# Altium integrated library Cypress USB Embedded-Host.IntLib: 2 symbols
Pins are listed as number, name and electrical type; pins without a type are passive.

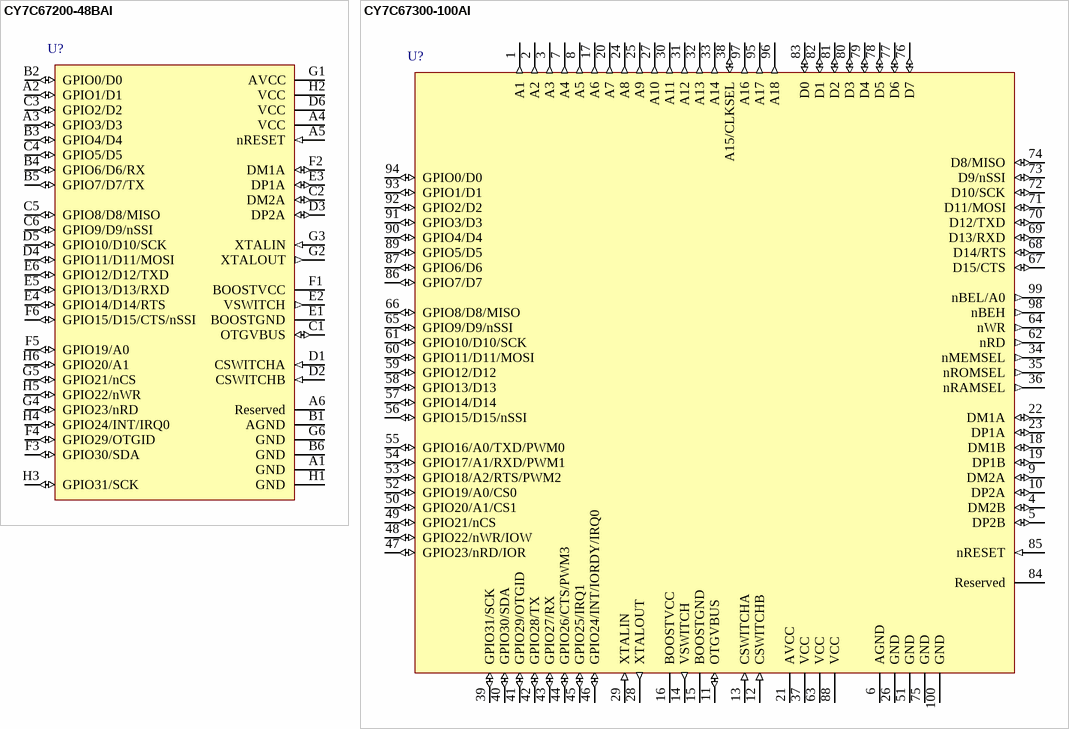
[diagram p0: symbols CY7C67200-48BAI to CY7C67300-100AI]

## CY7C67200-48BAI
designator U?
EZ-OTG Programmable USB On-The-Go Host/ Peripheral Controller; Published: 16-Dec-2005; LatestRevisionDate: 13-Apr-2006; LatestRevisionNote: IPC-7351 Footprint Added.; DatasheetVersion: rev.E, Sep-2003; PackageVersion: Sep-2003; PackageReference: BA48A; Publisher: Altium Limited; PackageDescription: 48-Ball Ball Grid Array 0.75 mm Pitch; ComponentLink1Description: Manufacturer Link; ComponentLink1URL: http://www.cypress.com/portal/server.pt/gateway/PTARGS_0_2_1524_209_259_43/http%3B/sjapp20.mis.cypress.com%3B7001/publishedcontent/publish/design_resources/datasheets/contents/cy7c64215_5.pdf; ComponentLink2Description: Datasheet; ComponentLink2URL: http://www.cypress.com/portal/server.pt/gateway/PTARGS_0_2_1524_209_259_43/http%3B/sjapp20.mis.cypress.com%3B7001/publishedcontent/publish/design_resources/datasheets/contents/cy7c67200_5.pdf
footprint BA48A (BGA, 48-Leads, Body 7x7mm, Pitch 0.75mm)
pins: A1 GND (power), A2 GPIO1/D1 (io), A3 GPIO3/D3 (io), A4 VCC (power), A5 nRESET (in), A6 Reserved (power), B1 AGND (power), B2 GPIO0/D0 (io), B3 GPIO4/D4 (io), B4 GPIO6/D6/RX (io), B5 GPIO7/D7/TX (io), B6 GND (power), C1 OTGVBUS (io), C2 DM2A (io), C3 GPIO2/D2 (io), C4 GPIO5/D5 (io), C5 GPIO8/D8/MISO (io), C6 GPIO9/D9/nSSI (io), D1 CSWITCHA (in), D2 CSWITCHB (in), D3 DP2A (io), D4 GPIO11/D11/MOSI (io), D5 GPIO10/D10/SCK (io), D6 VCC (power), E1 BOOSTGND (power), E2 VSWITCH (out), E3 DP1A (io), E4 GPIO14/D14/RTS (io), E5 GPIO13/D13/RXD (io), E6 GPIO12/D12/TXD (io), F1 BOOSTVCC (power), F2 DM1A (io), F3 GPIO30/SDA (io), F4 GPIO29/OTGID (io), F5 GPIO19/A0 (io), F6 GPIO15/D15/CTS/nSSI (io), G1 AVCC (power), G2 XTALOUT (out), G3 XTALIN (in), G4 GPIO23/nRD (io), G5 GPIO21/nCS (io), G6 GND (power), H1 GND (power), H2 VCC (power), H3 GPIO31/SCK (io), H4 GPIO24/INT/IRQ0 (io), H5 GPIO22/nWR (io), H6 GPIO20/A1 (io)

## CY7C67300-100AI
designator U?
EZ-Host Programmable Embedded USB Host/ Peripheral Controller; Published: 16-Dec-2005; LatestRevisionDate: 13-Apr-2006; LatestRevisionNote: IPC-7351 Footprint Added.; DatasheetVersion: rev.E, Sep-2003; PackageVersion: Mar-2001; PackageReference: A100; Publisher: Altium Limited; PackageDescription: 100-Pin Thin Quad Flat Pack 0.5 mm Pitch; ComponentLink1Description: Manufacturer Link; ComponentLink1URL: http://www.cypress.com/portal/server.pt/gateway/PTARGS_0_2_1524_209_259_43/http%3B/sjapp20.mis.cypress.com%3B7001/publishedcontent/publish/design_resources/datasheets/contents/cy7c64215_5.pdf; ComponentLink2Description: Datasheet; ComponentLink2URL: http://www.cypress.com/portal/server.pt/gateway/PTARGS_0_2_1524_209_259_43/http%3B/sjapp20.mis.cypress.com%3B7001/publishedcontent/publish/design_resources/datasheets/contents/cy7c67300_5.pdf
footprint A100_N (Thin QFP, 100-Leads, Body 14x14mm, Pitch 0.5mm, IPC Medium Density)
footprint A100_L (Thin QFP, 100-Leads, Body 14x14mm, Pitch 0.5mm, IPC High Density)
footprint A100_M (Thin QFP, 100-Leads, Body 14x14mm, Pitch 0.5mm, IPC Low Density)
pins: 1 A1 (out), 2 A2 (out), 3 A3 (out), 4 DM2B (io), 5 DP2B (io), 6 AGND (power), 7 A4 (out), 8 A5 (out), 9 DM2A (io), 10 DP2A (io), 11 OTGVBUS (io), 12 CSWITCHB (in), 13 CSWITCHA (in), 14 VSWITCH (out), 15 BOOSTGND (power), 16 BOOSTVCC (power), 17 A6 (out), 18 DM1B (io), 19 DP1B (io), 20 A7 (out), 21 AVCC (power), 22 DM1A (io), 23 DP1A (io), 24 A8 (out), 25 A9 (out), 26 GND (power), 27 A10 (out), 28 XTALOUT (out), 29 XTALIN (in), 30 A11 (out), 31 A12 (out), 32 A13 (out), 33 A14 (out), 34 nMEMSEL (out), 35 nROMSEL (out), 36 nRAMSEL (out), 37 VCC (power), 38 A15/CLKSEL (io), 39 GPIO31/SCK (io), 40 GPIO30/SDA (io), 41 GPIO29/OTGID (io), 42 GPIO28/TX (io), 43 GPIO27/RX (io), 44 GPIO26/CTS/PWM3 (io), 45 GPIO25/IRQ1 (io), 46 GPIO24/INT/IORDY/IRQ0 (io), 47 GPIO23/nRD/IOR (io), 48 GPIO22/nWR/IOW (io), 49 GPIO21/nCS (io), 50 GPIO20/A1/CS1 (io), 51 GND (power), 52 GPIO19/A0/CS0 (io), 53 GPIO18/A2/RTS/PWM2 (io), 54 GPIO17/A1/RXD/PWM1 (io), 55 GPIO16/A0/TXD/PWM0 (io), 56 GPIO15/D15/nSSI (io), 57 GPIO14/D14 (io), 58 GPIO13/D13 (io), 59 GPIO12/D12 (io), 60 GPIO11/D11/MOSI (io), 61 GPIO10/D10/SCK (io), 62 nRD (out), 63 VCC (power), 64 nWR (out), 65 GPIO9/D9/nSSI (io), 66 GPIO8/D8/MISO (io), 67 D15/CTS (io), 68 D14/RTS (io), 69 D13/RXD (io), 70 D12/TXD (io), 71 D11/MOSI (io), 72 D10/SCK (io), 73 D9/nSSI (io), 74 D8/MISO (io), 75 GND (power), 76 D7 (io), 77 D6 (io), 78 D5 (io), 79 D4 (io), 80 D3 (io), 81 D2 (io), 82 D1 (io), 83 D0 (io), 84 Reserved, 85 nRESET (in), 86 GPIO7/D7 (io), 87 GPIO6/D6 (io), 88 VCC (power), 89 GPIO5/D5 (io), 90 GPIO4/D4 (io), 91 GPIO3/D3 (io), 92 GPIO2/D2 (io), 93 GPIO1/D1 (io), 94 GPIO0/D0 (io), 95 A17 (out), 96 A18 (out), 97 A16 (out), 98 nBEH (out), 99 nBEL/A0 (out), 100 GND (power)